# Altium footprint library ABM3B_5X3X11.PcbLib: 1 footprints
Each footprint in its own frame and in the unit in brackets; x right, y up, seen from the top. Pads: shape width x height; smd on the part's side, far side on the other; paste and mask are expansions set on the pad; w line width, h text height; cw(c..) or ccw(c..) is an arc to the next point about the centre after c.
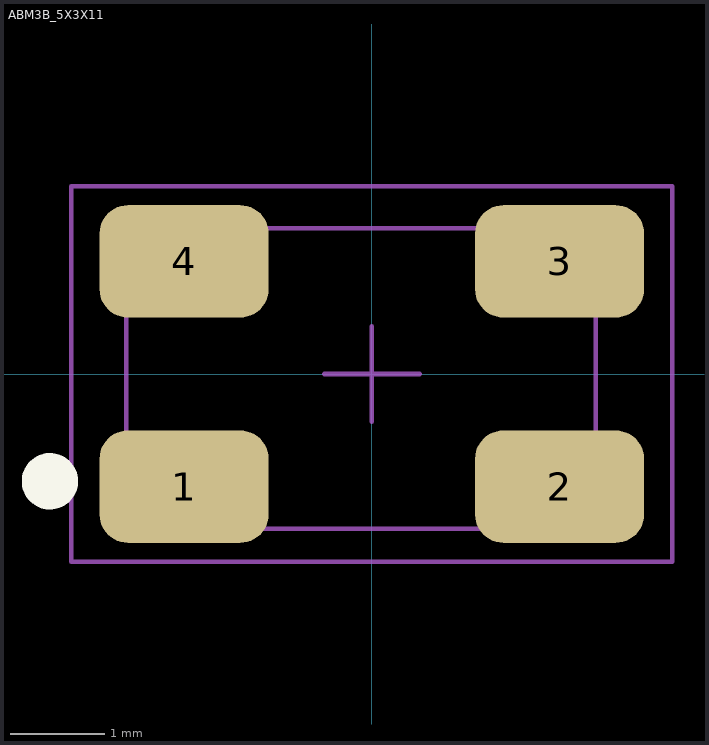
[diagram p0: the footprint, top view; thin cyan lines are the x and y axes]

## ABM3B_5X3X11 [mm]
pads (4):
  rrect50% 1.8x1.2 smd: 1(-2,-1.2) 2(2,-1.2) 3(2,1.2) 4(-2,1.2)
Top Overlay:
  circle w0.3: c-3.429,-1.143 r0.15
Top Assembly:
  lines w0.05: -0.508,0 0.508,0 ; 0,-0.508 0,0.508 ; -2.616,-1.647 -2.616,1.553 2.384,1.553 2.384,-1.647 -2.616,-1.647
Top Courtyard:
  lines w0.05: -0.3,0 0.3,0 ; 0,-0.3 0,0.3 ; -3.2,-2 -3.2,2 3.2,2 3.2,-2 -3.2,-2
3D body "User Library-ABM3B.STEP": height 1.1, standoff 0, extent -2.616,-1.647 2.384,1.553